# EAGLE library part ICM-20649 (library QUAD_ICs)
IMU ICM-20649
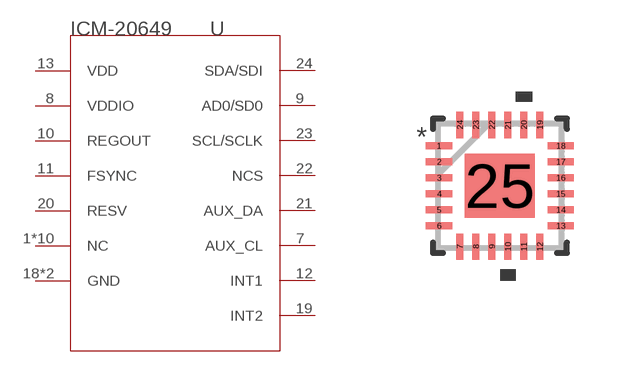
[diagram p0: symbol with the pads of QFN24_3X3X0P9_IVS; footprint QFN24_3X3X0P9_IVS]

Designator prefix U

## ICM-20649 (BUILT_BY: EMA_Cory; COPYRIGHT: Copyright (C) 2018 Accelerated Designs. All rights reserved; MANUFACTURER_PART_NUMBER: ICM-20649; SOURCELIBRARY: InvenSense_2019-12-03; VENDOR: IvenSense)  [QFN24_3X3X0P9_IVS]
1  NC  nc
2  NC  nc
3  NC  nc
4  NC  nc
5  NC  nc
6  NC  nc
7  AUX_CL  pas
8  VDDIO  pwr
9  AD0/SD0
10  REGOUT  out
11  FSYNC  in
12  INT1
13  VDD  pwr
14  NC  nc
15  NC  nc
16  NC  nc
17  NC  nc
18  GND  pas
19  INT2
20  RESV  pas
21  AUX_DA  pas
22  NCS  pas
23  SCL/SCLK  pas
24  SDA/SDI  pas
25  GND  pas

## Footprint QFN24_3X3X0P9_IVS (pad centres in mm)
smd 0.656 x 0.174: 1 -1.522,1; 2 -1.522,0.6; 3 -1.522,0.2; 4 -1.522,-0.2; 5 -1.522,-0.6; 6 -1.522,-1; 13 1.522,-1; 14 1.522,-0.6; 15 1.522,-0.2; 16 1.522,0.2; 17 1.522,0.6; 18 1.522,1
smd 0.174 x 0.656: 7 -1,-1.522; 8 -0.6,-1.522; 9 -0.2,-1.522; 10 0.2,-1.522; 11 0.6,-1.522; 12 1,-1.522; 19 1,1.522; 20 0.6,1.522; 21 0.2,1.522; 22 -0.2,1.522; 23 -0.6,1.522; 24 -1,1.522
smd 1.75 x 1.6: 25 0,0